# EAGLE library part MAX1771 (library pedals-integrated circuits)
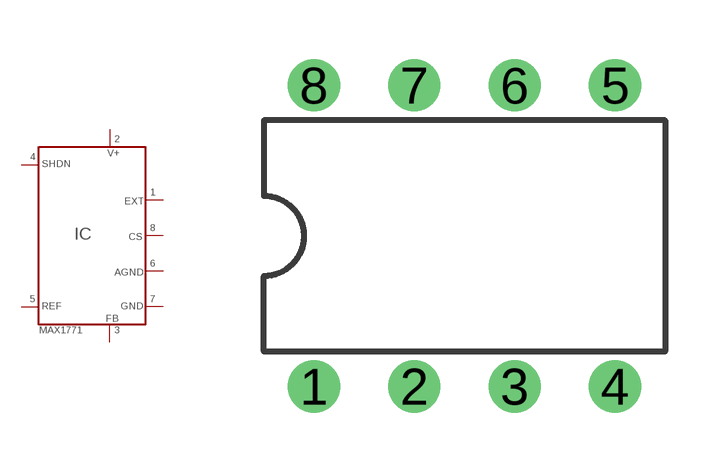
[diagram p20: symbol with the pads of DIL0; footprint DIL0]

Designator prefix IC

## MAX1771  [DIL0]
1  1
2  2
3  3
4  4
5  5
6  6
7  7
8  8

## Footprint DIL0 (pad centres in mm)
Dual In Line Package
drill 0.813 pad 1.27: 1 -3.81,-3.81; 2 -1.27,-3.81; 3 1.27,-3.81; 4 3.81,-3.81; 5 3.81,3.81; 6 1.27,3.81; 7 -1.27,3.81; 8 -3.81,3.81